# Altium footprint library footprints.PcbLib: 29 footprints (part 2 of 2)
Each footprint in its own frame and in the unit in brackets; x right, y up, seen from the top. Pads: shape width x height; smd on the part's side, far side on the other; paste and mask are expansions set on the pad; w line width, h text height; cw(c..) or ccw(c..) is an arc to the next point about the centre after c.
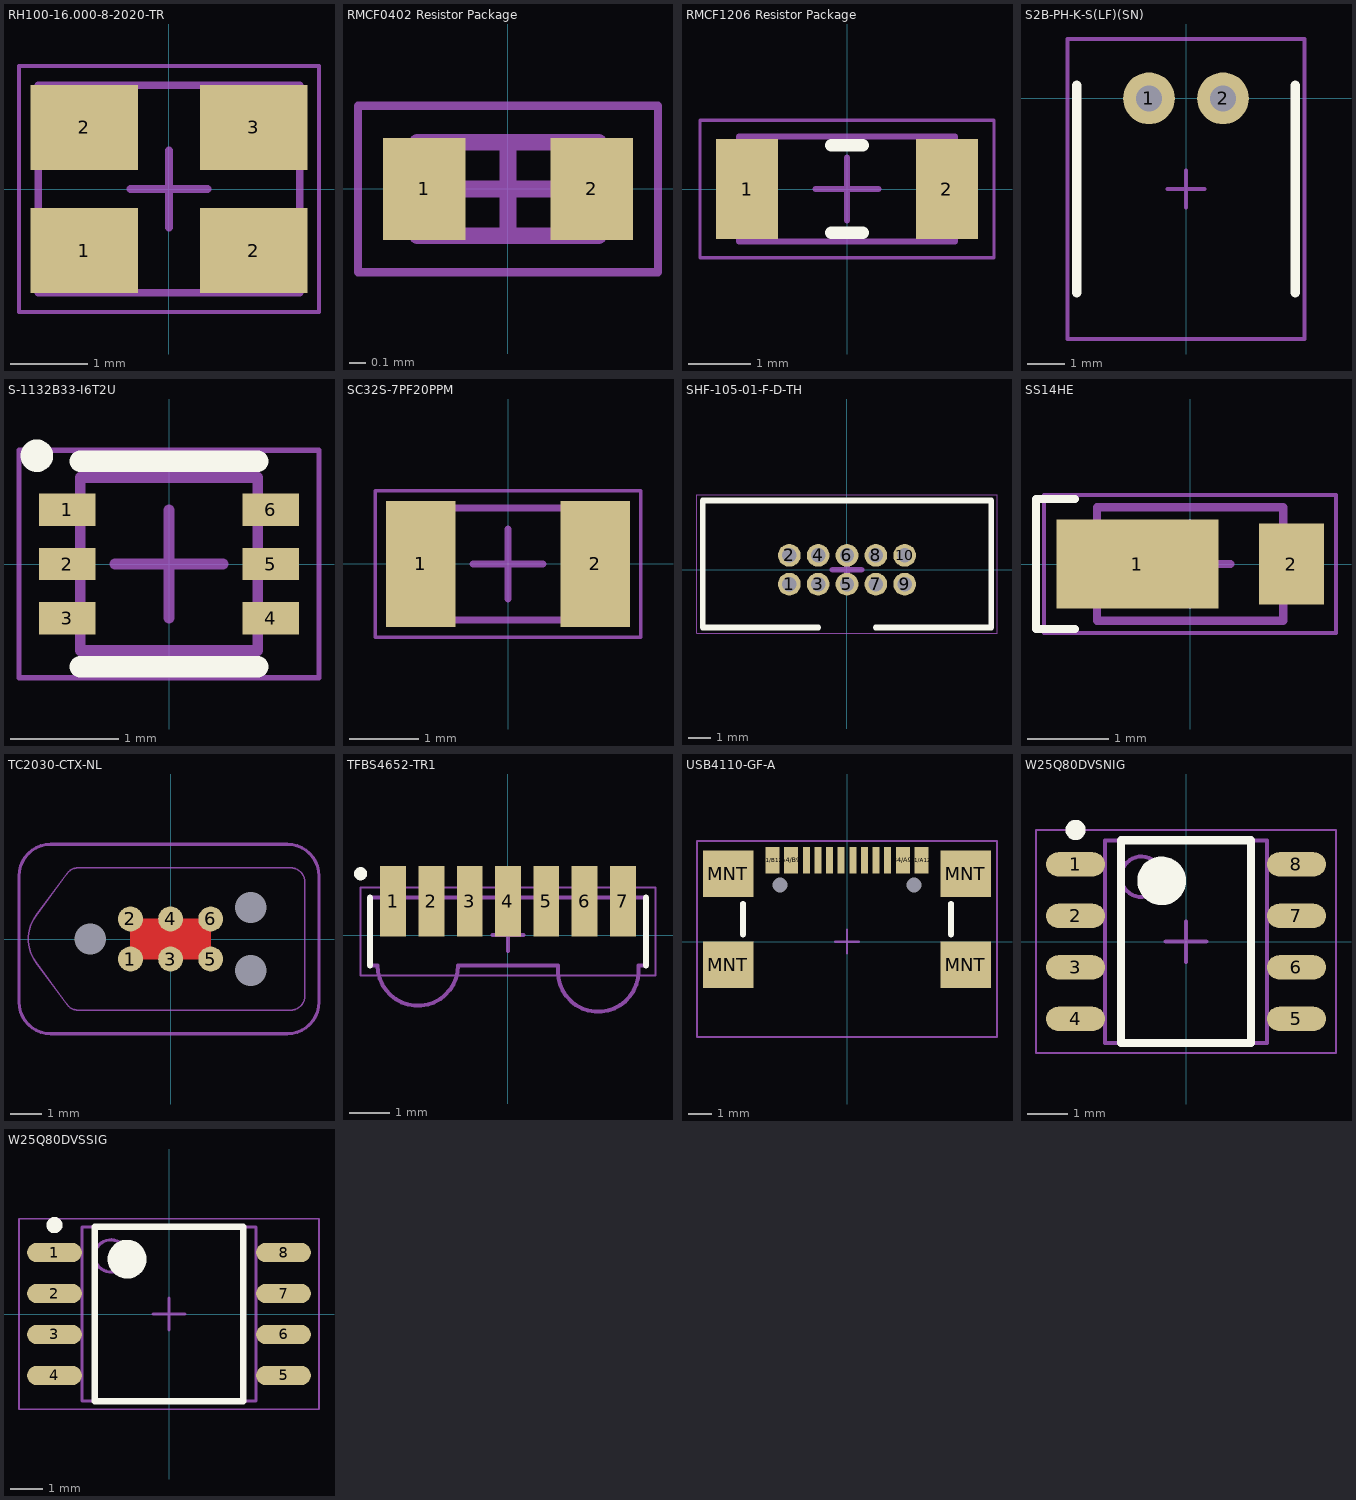
[diagram p1: the footprints below, top view; thin cyan lines are the x and y axes]

## RH100-16.000-8-2020-TR [mm] "16 MHz ±20ppm Crystal 8pF 70 Ohms 4-SMD, No Lead"
height 0.8
pads (4):
  rect 1.4x1.1 smd: 1(-1.1,-0.8) 2(-1.1,0.8) 2(1.1,-0.8) 3(1.1,0.8)
Mechanical 13:
  lines w0.1: -1.7,-1.35 1.7,-1.35 1.7,1.35 -1.7,1.35 -1.7,-1.35
Mechanical 15:
  lines w0.05: -1.95,-1.6 1.95,-1.6 1.95,1.6 -1.95,1.6 -1.95,-1.6
  lines w0.1: -0.5,0 0.5,0 ; 0,-0.5 0,0.5
3D body "DFN220P320X80-4N.step": height 0.8, standoff 0, extent -1.7,-1.35 1.7,1.35

## RMCF0402 Resistor Package [mil] "Chip Resistor, 2-Leads, Body 0.99x0.51mm, IPC Medium Density"
height 16.14
pads (2):
  rect 19.5x24 smd: 1(-19.75,0) 2(19.75,0)
Mechanical 13:
  lines w3.94: -21.46,-11.02 21.46,-11.02 21.46,11.02 -21.46,11.02 -21.46,-11.02
Mechanical 15:
  lines w1.97: -35.43,-19.68 35.43,-19.68 35.43,19.68 -35.43,19.68 -35.43,-19.68
  lines w3.94: -11.02,0 11.02,0 ; 0,-11.02 0,11.02
3D body "RMCF0402 Resistor Package.step": height 16, standoff 0, extent -21.46,-11.02 21.46,11.02

## RMCF1206 Resistor Package [mil] "Chip Resistor, 2-Leads, Body 3.20x1.56mm, IPC Medium Density"
height 28.35
pads (2):
  rect 39x63 smd: 1(-63,0) 2(63,0)
Top Overlay:
  lines w7.87: -9.84,-27.56 9.84,-27.56 ; -9.84,27.56 9.84,27.56
Mechanical 13:
  lines w3.94: -67.91,-33.07 67.91,-33.07 67.91,33.07 -67.91,33.07 -67.91,-33.07
Mechanical 15:
  lines w1.97: -92.52,-43.31 92.52,-43.31 92.52,43.31 -92.52,43.31 -92.52,-43.31
  lines w3.94: -19.68,0 19.68,0 ; 0,-19.68 0,19.68
3D body "RMCF 1206.step": height 28, standoff 0, extent -67.91,-33.07 67.91,33.07

## S2B-PH-K-S(LF)(SN) [mm] "Connector Header Through Hole, Right Angle 2 position 0.079\" (2.00mm)"
pads (2):
  round 1.4 hole 0.7: 1(-1,0) 2(1,0)
Top Overlay:
  lines w0.254: -2.95,-5.25 -2.95,0.35 ; 2.95,-5.25 2.95,0.35
Mechanical 15:
  lines w0.1: -0.508,-2.45 0.508,-2.45 ; 0,-2.958 0,-1.942 ; -3.204,-6.504 3.204,-6.504 3.204,1.604 -3.204,1.604 -3.204,-6.504
3D body "S2B-PH-K-S.STEP": height 4.8, standoff -3.4, extent -2.95,-6.25 2.95,1.35

## S-1132B33-I6T2U [mm] "Linear Voltage Regulator IC Positive Fixed 1 Output 300mA SNT-6A"
height 0.5
pads (6):
  rect 0.52x0.3 smd: 1(-0.94,0.5) 2(-0.94,0) 3(-0.94,-0.5) 4(0.94,-0.5) 5(0.94,0) 6(0.94,0.5)
Top Overlay:
  circle w0.2: c-1.22,1 r0.05
  lines w0.2: -0.82,-0.95 0.82,-0.95 ; -0.82,0.95 0.82,0.95
Mechanical 13:
  lines w0.1: -0.82,-0.8 0.82,-0.8 0.82,0.8 -0.82,0.8 -0.82,-0.8
Mechanical 15:
  lines w0.05: -1.385,-1.05 1.385,-1.05 1.385,1.05 -1.385,1.05 -1.385,-1.05
  lines w0.1: -0.5,0 0.5,0 ; 0,-0.5 0,0.5
3D body "SON127P600-8N.step": height 0.5, standoff 0, extent -0.821,-0.8 0.821,0.8

## SC32S-7PF20PPM [mm] "32.768 kHz ±20ppm Crystal 7pF 70 kOhms 2-SMD, No Lead"
height 0.85
pads (2):
  rect 1x1.8 smd: 1(-1.25,0) 2(1.25,0)
Mechanical 13:
  lines w0.1: -1.65,-0.8 -1.65,0.8 1.65,0.8 1.65,-0.8 -1.65,-0.8
Mechanical 15:
  lines w0.05: -1.9,-1.05 -1.9,1.05 1.9,1.05 1.9,-1.05 -1.9,-1.05
  lines w0.1: -0.5,0 0.5,0 ; 0,-0.5 0,0.5
3D body "DFN220P320X85-2N.step": height 0.85, standoff 0, extent -1.65,-0.8 1.65,0.8

## SHF-105-01-F-D-TH [mm] "Connector Header Through Hole 10 position 0.050\" (1.27mm)"
pads (10):
  round 1 hole 0.637: 1(-2.54,-0.635) 2(-2.54,0.635) 3(-1.27,-0.635) 4(-1.27,0.635) 5(0,-0.635) 6(0,0.635) 7(1.27,-0.635) 8(1.27,0.635) 9(2.54,-0.635) 10(2.54,0.635)
Top Overlay:
  lines w0.254: -1.27,-2.54 -6.35,-2.54 -6.35,3.048 6.35,3.048 6.35,-2.54 1.27,-2.54
Mechanical 15:
  lines w0.05: -6.604,-2.794 6.604,-2.794 6.604,3.302 -6.604,3.302 -6.604,-2.794
  lines w0.254: -0.635,0 0.635,0 ; 0,-0.635 0,0.635
3D body "SHF-105-01-F-D-TH.stp": height 5.33, standoff -1.91, extent -6.35,-2.54 6.35,3.048

## SS14HE [mm] "SODFL, 2-Leads, Body 1.27x2.50mm, IPC Medium Density"
height 0.75
pads (2):
  rect 2x1.1 smd: 1(-0.65,0)
  rect 0.8x1 smd: 2(1.25,0)
Top Overlay:
  lines w0.1: -1.421,-0.8 -1.9,-0.8 -1.9,0.8 -1.421,0.8
Mechanical 13:
  lines w0.1: -1.15,-0.7 -1.15,0.7 1.15,0.7 1.15,-0.7 -1.15,-0.7
Mechanical 15:
  lines w0.05: -1.8,-0.85 1.8,-0.85 1.8,0.85 -1.8,0.85 -1.8,-0.85
  lines w0.1: -0.5,0 0.5,0 ; 0,-0.5 0,0.5
3D body "SODFL250X75-2N.step": height 0.75, standoff 0, extent -1.25,-0.7 1.25,0.7

## TC2030-CTX-NL [mm] "6-Pin “No Legs” Cable with 10-pin micro-connector for Cortex processors"
pads (9):
  round 0.787 smd: 1(-1.27,-0.635) 2(-1.27,0.635) 3(0,-0.635) 4(0,0.635) 5(1.27,-0.635) 6(1.27,0.635)
  round 0 hole 0.991 unplated: HOLE(-2.54,0) HOLE1(2.54,-1) HOLE2(2.54,1)
Top Layer:
  pour cut-out: 1.27,-0.635 1.27,0.635 -1.27,0.635 -1.27,-0.635
Mechanical 13:
  lines w0.1: -4.8,-2 ccw(c-3.8,-2) -3.8,-3 3.7,-3 ccw(c3.7,-2) 4.7,-2 4.7,2 ccw(c3.7,2) 3.7,3 -3.8,3 ccw(c-3.8,2) -4.8,2 -4.8,-2
Mechanical 15:
  lines w0.05: -4.253,-0.753 -3.28,-2.073 ccw(c-2.917,-1.8) -2.917,-2.254 3.8,-2.254 ccw(c3.8,-1.8) 4.254,-1.8 4.254,1.8 ccw(c3.8,1.8) 3.8,2.254 -2.917,2.254 ccw(c-2.917,1.8) -3.28,2.073 -4.253,0.752 ccw(c-3.25,0) -4.253,-0.752
3D body "TC2030.stp": height 39.8, standoff -1.7, extent -4.8,-3 4.7,3

## TFBS4652-TR1 [mm] "115.2kbs (SIR) IRDA Transceiver Side View"
pads (7):
  rect 0.64x1.74 smd: 1(-2.85,0.84) 2(-1.9,0.84) 3(-0.95,0.84) 4(0,0.84) 5(0.95,0.84) 6(1.9,0.84) 7(2.85,0.84)
Top Overlay:
  circle w0.2: c-3.656,1.524 r0.062
  lines w0.152: -3.426,-0.75 -3.426,0.93 ; 3.426,-0.75 3.426,0.93
Mechanical 13:
  lines w0.1: -3.4,-0.75 -3.235,-0.75 ccw(c-2.235,-0.75) -1.235,-0.75 1.235,-0.75 1.235,-0.9 ccw(c2.235,-0.9) 3.235,-0.9 3.235,-0.75 3.4,-0.75 3.4,0.93 -3.4,0.93 -3.4,-0.75
Mechanical 15:
  lines w0.05: -3.654,1.154 -3.654,-1.004 3.654,-1.004 3.654,1.154 ; -3.654,1.184 3.654,1.184
  lines w0.1: -0.39,0 0.39,0 ; 0,-0.39 0,0.39
3D body "84405TFBS4652.stp": height 1.61, standoff 0.01, extent -3.4,-1.9 3.4,0.93

## USB4110-GF-A [mm] "USB-C (USB TYPE-C) USB 2.0 Receptacle Connector 24 (16+8 Dummy) Position Surface Mount, Right Angle"
pads (18):
  rect 0.6x1.15 smd: A1/B12(-3.2,3.505) A4/B9(-2.4,3.505) B1/A12(3.2,3.505) B4/A9(2.4,3.505)
  rect 0.3x1.15 smd: A5(-1.25,3.505) A6(-0.25,3.505) A7(0.25,3.505) A8(1.25,3.505) B5(1.75,3.505) B6(0.75,3.505) B7(-0.75,3.505) B8(-1.75,3.505)
  round 0 hole 0.65 unplated: ALIGN(-2.89,2.43) ALIGN(2.89,2.43)
  rect 2.18x2 smd: MNT(-5.11,-1) MNT(-5.11,2.93) MNT(5.11,-1) MNT(5.11,2.93)
Top Overlay:
  lines w0.254: -4.47,0.3 -4.47,1.63 ; 4.47,0.3 4.47,1.63
Mechanical 15:
  lines w0.1: -0.508,0 0.508,0 ; 0,-0.508 0,0.508 ; -6.454,-4.104 6.454,-4.104 6.454,4.334 -6.454,4.334 -6.454,-4.104
3D body "USB4110-GF-A.stp": height 3.26, standoff -0.63, extent -5.65,-3.85 5.65,3.85

## W25Q80DVSNIG [mm] "SOIC, 8-Leads, Body 4.90x3.90mm, Pitch 1.27mm, IPC Medium Density"
height 1.75
pads (8):
  oval 1.45x0.6 smd: 1(-2.725,1.905) 2(-2.725,0.635) 3(-2.725,-0.635) 4(-2.725,-1.905) 5(2.725,-1.905) 6(2.725,-0.635) 7(2.725,0.635) 8(2.725,1.905)
Top Overlay:
  circle w0.25: c-2.725,2.755 r0.125
  circle w0.6: c-0.6,1.5 r0.3
  lines w0.2: -1.6,-2.5 -1.6,2.5 1.6,2.5 1.6,-2.5 -1.6,-2.5
Mechanical 13:
  circle w0.1: c-1.1,1.6 r0.5
  lines w0.1: -2,-2.5 -2,2.5 2,2.5 2,-2.5 -2,-2.5
Mechanical 15:
  lines w0.05: -3.7,-2.75 -3.7,2.75 3.7,2.75 3.7,-2.75 -3.7,-2.75
  lines w0.1: -0.5,0 0.5,0 ; 0,-0.5 0,0.5
3D body "SOIC127P600X175-8N.step": height 1.75, standoff 0, extent -3,-2.5 3,2.5

## W25Q80DVSSIG [mm] "FLASH - NOR Memory IC 8Mb (1M x 8) SPI - Quad I/O 104 MHz 8-SOIC"
height 2.16
pads (8):
  oval 1.7x0.6 smd: 1(-3.55,1.905) 2(-3.55,0.635) 3(-3.55,-0.635) 4(-3.55,-1.905) 5(3.55,-1.905) 6(3.55,-0.635) 7(3.55,0.635) 8(3.55,1.905)
Top Overlay:
  circle w0.6: c-1.3,1.7 r0.3
  circle w0.25: c-3.55,2.755 r0.125
  lines w0.2: -2.3,-2.7 2.3,-2.7 2.3,2.7 -2.3,2.7 -2.3,-2.7
Mechanical 13:
  circle w0.1: c-1.8,1.8 r0.5
  lines w0.1: -2.7,-2.7 2.7,-2.7 2.7,2.7 -2.7,2.7 -2.7,-2.7
Mechanical 15:
  lines w0.05: -4.65,-2.95 4.65,-2.95 4.65,2.95 -4.65,2.95 -4.65,-2.95
  lines w0.1: -0.5,0 0.5,0 ; 0,-0.5 0,0.5
3D body "SOIC127P790X216-8N.step": height 2.16, standoff 0, extent -3.95,-2.7 3.95,2.7